# EAGLE library part MOLEX_PCB_PCB_40 (library Bat-Components)
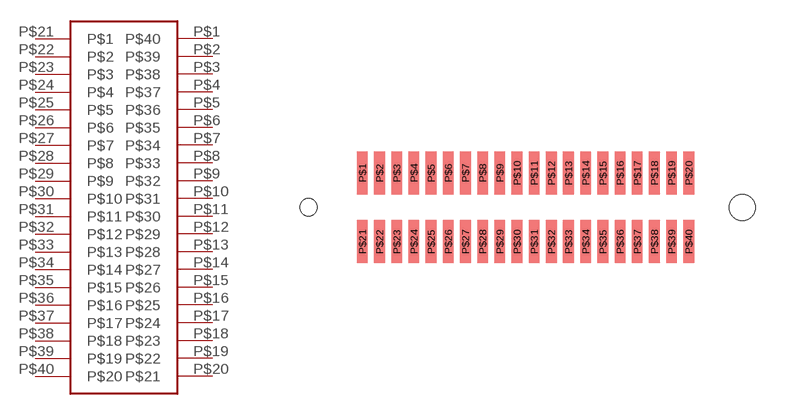
[diagram p8: symbol with the pads of MOLEX_PCB_PCB_40; footprint MOLEX_PCB_PCB_40]

Designator prefix -

## MOLEX_PCB_PCB_40  [MOLEX_PCB_PCB_40]
P$1  P$40
P$2  P$39
P$3  P$38
P$4  P$37
P$5  P$36
P$6  P$35
P$7  P$34
P$8  P$33
P$9  P$32
P$10  P$31
P$11  P$30
P$12  P$29
P$13  P$28
P$14  P$27
P$15  P$26
P$16  P$25
P$17  P$24
P$18  P$23
P$19  P$22
P$20  P$21
P$21  P$1
P$22  P$2
P$23  P$3
P$24  P$4
P$25  P$5
P$26  P$6
P$27  P$7
P$28  P$8
P$29  P$9
P$30  P$10
P$31  P$11
P$32  P$12
P$33  P$13
P$34  P$14
P$35  P$15
P$36  P$16
P$37  P$17
P$38  P$18
P$39  P$19
P$40  P$20

## Footprint MOLEX_PCB_PCB_40 (pad centres in mm)
smd 0.5 x 2: P$1 -7.6,1.6; P$2 -6.8,1.6; P$3 -6,1.6; P$4 -5.2,1.6; P$5 -4.4,1.6; P$6 -3.6,1.6; P$7 -2.8,1.6; P$8 -2,1.6; P$9 -1.2,1.6; P$10 -0.4,1.6; P$11 0.4,1.6; P$12 1.2,1.6; P$13 2,1.6; P$14 2.8,1.6; P$15 3.6,1.6; P$16 4.4,1.6; P$17 5.2,1.6; P$18 6,1.6; P$19 6.8,1.6; P$20 7.6,1.6; P$21 -7.6,-1.6; P$22 -6.8,-1.6; P$23 -6,-1.6; P$24 -5.2,-1.6; P$25 -4.4,-1.6; P$26 -3.6,-1.6; P$27 -2.8,-1.6; P$28 -2,-1.6; P$29 -1.2,-1.6; P$30 -0.4,-1.6; P$31 0.4,-1.6; P$32 1.2,-1.6; P$33 2,-1.6; P$34 2.8,-1.6; P$35 3.6,-1.6; P$36 4.4,-1.6; P$37 5.2,-1.6; P$38 6,-1.6; P$39 6.8,-1.6; P$40 7.6,-1.6
hole 0.8 at -10.1,0
hole 1.2 at 10.1,0